# Altium integrated library TI Data Converters Analog to Digital Converter.IntLib: 2197 symbols (part 5 of 168)
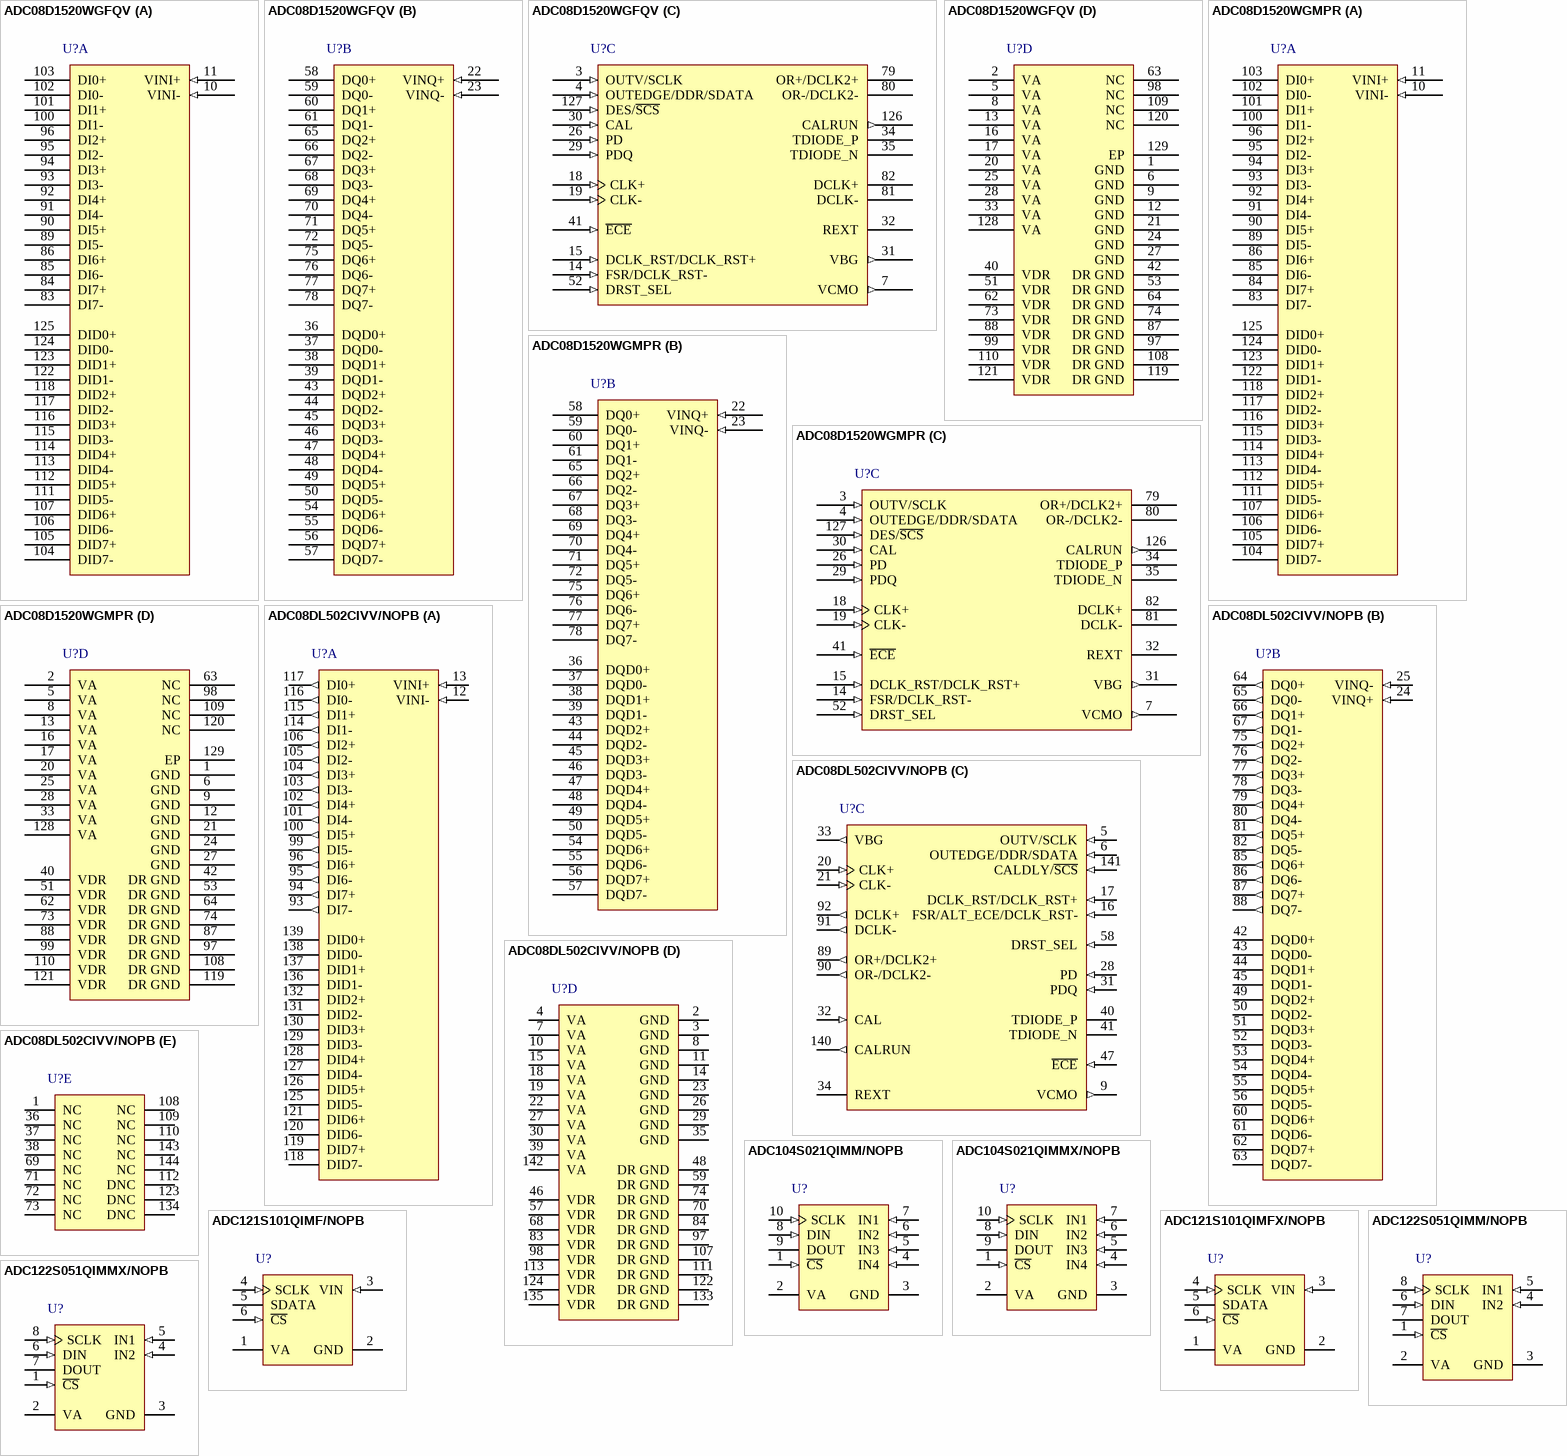
[diagram p130: symbols ADC08D1520WGFQV to ADC122S051QIMMX/NOPB]

## ADC08D1520WGMPR
designator U?
Low Power, 8-Bit, Dual 1.5 GSPS or Single 3.0 GSPS ADC, -55 to 125 degC, 128-pin CFP (NBC128), Green (RoHS & no Sb/Br); Manufacturer: Texas Instruments; PartNumber: ADC08D1520WGMPR; # Input Channels: 2; Analog Voltage AV/DD(Min)(V): 1.8; Architecture: Folding Interpolating; ENOB(Bits): 7.4; INL(Max)(+/-LSB): 0.9; Interface: Parallel LVDS, Serial SPI Interface; Resolution(Bits): 8; Sample Rate(max)(SPS): 3G; SFDR(dB): 55.5; SINAD(dB): 46.3; SNR(dB): 47; SubFamily: High Speed ADC (>10MSPS), High Speed ADC (>=1GSPS); DatasheetVersion: SNAS420O; PackageVersion: Rev. B, 08/2012; PackageReference: NBC128; PackageDescription: 128-Pin Ceramic, Metal Flat Pack, Body 19.558 x 19.558 mm, Pitch 0.508 mm; Supplier 1: Digi-Key; Supplier Part Number 1: 296-19305-2-ND; Supplier 2: Digi-Key; Supplier Part Number 2: 296-19305-1-ND; Supplier 3: Digi-Key; Supplier Part Number 3: 296-19305-6-ND; Supplier 4: Newark; Supplier Part Number 4: 05W5113; Supplier 5: Mouser; Supplier Part Number 5: 595-ADS7886SBDBVT; Analog Voltage AV/DD(Max)(V): 2; Digital Supply(Max)(V): 2; Digital Supply(Min)(V): 1.8; Eco-Plan: Green (RoHS & no Sb/Br); Mounting Technology: Surface Mount; ComponentLink1Description: Manufacturer URL; ComponentLink1URL: http://www.ti.com/; ComponentLink2Description: Datasheet; ComponentLink2URL: http://www.ti.com/lit/ds/symlink/adc08d1520qml-sp.pdf; ComponentLink3Description: Package Specification; ComponentLink3URL: http://www.ti.com/litv/pdf/mcqf023
footprint TI-NBC128_N (CQFP, 128-Leads, Body 19.558x19.558mm, Pitch 0.508mm, Thermal Pad 15.39 x 15.39 mm, IPC Medium Density)
footprint TI-NBC128_L (CQFP, 128-Leads, Body 19.558x19.558mm, Pitch 0.508mm, Thermal Pad 15.39 x 15.39 mm, IPC High Density)
footprint TI-NBC128_M (CQFP, 128-Leads, Body 19.558x19.558mm, Pitch 0.508mm, Thermal Pad 15.39 x 15.39 mm, IPC Low Density)
part A pins: 10 VINI- (in) "Analog signal inputs to the ADC. The differential full-scale input range is programmable using the FSR pin 14 in Non- Extended Control Mode and the Input Full-Scale Voltage Adjust register in the Extended Control Mode. Refer (See Datasheet)", 11 VINI+ (in) "Analog signal inputs to the ADC. The differential full-scale input range is programmable using the FSR pin 14 in Non- Extended Control Mode and the Input Full-Scale Voltage Adjust register in the Extended Control Mode. Refer (See Datasheet)", 83 DI7- (hiz) "I- and Q- channel LVDS Data Outputs that are not delayed in the output demultiplexer. Compared with the DId and DQd outputs, these outputs represent the later time samples. These outputs should always be terminated with a (See Datasheet)", 84 DI7+ (hiz) "I- and Q- channel LVDS Data Outputs that are not delayed in the output demultiplexer. Compared with the DId and DQd outputs, these outputs represent the later time samples. These outputs should always be terminated with a (See Datasheet)", 85 DI6- (hiz) "I- and Q- channel LVDS Data Outputs that are not delayed in the output demultiplexer. Compared with the DId and DQd outputs, these outputs represent the later time samples. These outputs should always be terminated with a (See Datasheet)", 86 DI6+ (hiz) "I- and Q- channel LVDS Data Outputs that are not delayed in the output demultiplexer. Compared with the DId and DQd outputs, these outputs represent the later time samples. These outputs should always be terminated with a (See Datasheet)", 89 DI5- (hiz) "I- and Q- channel LVDS Data Outputs that are not delayed in the output demultiplexer. Compared with the DId and DQd outputs, these outputs represent the later time samples. These outputs should always be terminated with a (See Datasheet)", 90 DI5+ (hiz) "I- and Q- channel LVDS Data Outputs that are not delayed in the output demultiplexer. Compared with the DId and DQd outputs, these outputs represent the later time samples. These outputs should always be terminated with a (See Datasheet)", 91 DI4- (hiz) "I- and Q- channel LVDS Data Outputs that are not delayed in the output demultiplexer. Compared with the DId and DQd outputs, these outputs represent the later time samples. These outputs should always be terminated with a (See Datasheet)", 92 DI4+ (hiz) "I- and Q- channel LVDS Data Outputs that are not delayed in the output demultiplexer. Compared with the DId and DQd outputs, these outputs represent the later time samples. These outputs should always be terminated with a (See Datasheet)", 93 DI3- (hiz) "I- and Q- channel LVDS Data Outputs that are not delayed in the output demultiplexer. Compared with the DId and DQd outputs, these outputs represent the later time samples. These outputs should always be terminated with a (See Datasheet)", 94 DI3+ (hiz) "I- and Q- channel LVDS Data Outputs that are not delayed in the output demultiplexer. Compared with the DId and DQd outputs, these outputs represent the later time samples. These outputs should always be terminated with a (See Datasheet)", 95 DI2- (hiz) "I- and Q- channel LVDS Data Outputs that are not delayed in the output demultiplexer. Compared with the DId and DQd outputs, these outputs represent the later time samples. These outputs should always be terminated with a (See Datasheet)", 96 DI2+ (hiz) "I- and Q- channel LVDS Data Outputs that are not delayed in the output demultiplexer. Compared with the DId and DQd outputs, these outputs represent the later time samples. These outputs should always be terminated with a (See Datasheet)", 100 DI1- (hiz) "I- and Q- channel LVDS Data Outputs that are not delayed in the output demultiplexer. Compared with the DId and DQd outputs, these outputs represent the later time samples. These outputs should always be terminated with a (See Datasheet)", 101 DI1+ (hiz) "I- and Q- channel LVDS Data Outputs that are not delayed in the output demultiplexer. Compared with the DId and DQd outputs, these outputs represent the later time samples. These outputs should always be terminated with a (See Datasheet)", 102 DI0- (hiz) "I- and Q- channel LVDS Data Outputs that are delayed by one CLK cycle in the output demultiplexer. Compared with the DI and DQ outputs, these outputs represent the earlier time sample. These outputs should always be (See Datasheet)", 103 DI0+ (hiz) "I- and Q- channel LVDS Data Outputs that are not delayed in the output demultiplexer. Compared with the DId and DQd outputs, these outputs represent the later time samples. These outputs should always be terminated with a (See Datasheet)", 104 DID7- (hiz) "I- and Q- channel LVDS Data Outputs that are delayed by one CLK cycle in the output demultiplexer. Compared with the DI and DQ outputs, these outputs represent the earlier time sample. These outputs should always be (See Datasheet)", 105 DID7+ (hiz) "I- and Q- channel LVDS Data Outputs that are delayed by one CLK cycle in the output demultiplexer. Compared with the DI and DQ outputs, these outputs represent the earlier time sample. These outputs should always be (See Datasheet)", 106 DID6- (hiz) "I- and Q- channel LVDS Data Outputs that are delayed by one CLK cycle in the output demultiplexer. Compared with the DI and DQ outputs, these outputs represent the earlier time sample. These outputs should always be (See Datasheet)", 107 DID6+ (hiz) "I- and Q- channel LVDS Data Outputs that are delayed by one CLK cycle in the output demultiplexer. Compared with the DI and DQ outputs, these outputs represent the earlier time sample. These outputs should always be (See Datasheet)", 111 DID5- (hiz) "I- and Q- channel LVDS Data Outputs that are delayed by one CLK cycle in the output demultiplexer. Compared with the DI and DQ outputs, these outputs represent the earlier time sample. These outputs should always be (See Datasheet)", 112 DID5+ (hiz) "I- and Q- channel LVDS Data Outputs that are delayed by one CLK cycle in the output demultiplexer. Compared with the DI and DQ outputs, these outputs represent the earlier time sample. These outputs should always be (See Datasheet)", 113 DID4- (hiz) "I- and Q- channel LVDS Data Outputs that are delayed by one CLK cycle in the output demultiplexer. Compared with the DI and DQ outputs, these outputs represent the earlier time sample. These outputs should always be (See Datasheet)", 114 DID4+ (hiz) "I- and Q- channel LVDS Data Outputs that are delayed by one CLK cycle in the output demultiplexer. Compared with the DI and DQ outputs, these outputs represent the earlier time sample. These outputs should always be (See Datasheet)", 115 DID3- (hiz) "I- and Q- channel LVDS Data Outputs that are delayed by one CLK cycle in the output demultiplexer. Compared with the DI and DQ outputs, these outputs represent the earlier time sample. These outputs should always be (See Datasheet)", 116 DID3+ (hiz) "I- and Q- channel LVDS Data Outputs that are delayed by one CLK cycle in the output demultiplexer. Compared with the DI and DQ outputs, these outputs represent the earlier time sample. These outputs should always be (See Datasheet)", 117 DID2- (hiz) "I- and Q- channel LVDS Data Outputs that are delayed by one CLK cycle in the output demultiplexer. Compared with the DI and DQ outputs, these outputs represent the earlier time sample. These outputs should always be (See Datasheet)", 118 DID2+ (hiz) "I- and Q- channel LVDS Data Outputs that are delayed by one CLK cycle in the output demultiplexer. Compared with the DI and DQ outputs, these outputs represent the earlier time sample. These outputs should always be (See Datasheet)", 122 DID1- (hiz) "I- and Q- channel LVDS Data Outputs that are delayed by one CLK cycle in the output demultiplexer. Compared with the DI and DQ outputs, these outputs represent the earlier time sample. These outputs should always be (See Datasheet)", 123 DID1+ (hiz) "I- and Q- channel LVDS Data Outputs that are delayed by one CLK cycle in the output demultiplexer. Compared with the DI and DQ outputs, these outputs represent the earlier time sample. These outputs should always be (See Datasheet)", 124 DID0- (hiz) "I- and Q- channel LVDS Data Outputs that are delayed by one CLK cycle in the output demultiplexer. Compared with the DI and DQ outputs, these outputs represent the earlier time sample. These outputs should always be (See Datasheet)", 125 DID0+ (hiz) "I- and Q- channel LVDS Data Outputs that are delayed by one CLK cycle in the output demultiplexer. Compared with the DI and DQ outputs, these outputs represent the earlier time sample. These outputs should always be (See Datasheet)"
part B pins: 22 VINQ+ (in) "Analog signal inputs to the ADC. The differential full-scale input range is programmable using the FSR pin 14 in Non- Extended Control Mode and the Input Full-Scale Voltage Adjust register in the Extended Control Mode. Refer (See Datasheet)", 23 VINQ- (in) "Analog signal inputs to the ADC. The differential full-scale input range is programmable using the FSR pin 14 in Non- Extended Control Mode and the Input Full-Scale Voltage Adjust register in the Extended Control Mode. Refer (See Datasheet)", 36 DQD0+ (hiz) "I- and Q- channel LVDS Data Outputs that are delayed by one CLK cycle in the output demultiplexer. Compared with the DI and DQ outputs, these outputs represent the earlier time sample. These outputs should always be (See Datasheet)", 37 DQD0- (hiz) "I- and Q- channel LVDS Data Outputs that are delayed by one CLK cycle in the output demultiplexer. Compared with the DI and DQ outputs, these outputs represent the earlier time sample. These outputs should always be (See Datasheet)", 38 DQD1+ (hiz) "I- and Q- channel LVDS Data Outputs that are delayed by one CLK cycle in the output demultiplexer. Compared with the DI and DQ outputs, these outputs represent the earlier time sample. These outputs should always be (See Datasheet)", 39 DQD1- (hiz) "I- and Q- channel LVDS Data Outputs that are delayed by one CLK cycle in the output demultiplexer. Compared with the DI and DQ outputs, these outputs represent the earlier time sample. These outputs should always be (See Datasheet)", 43 DQD2+ (hiz) "I- and Q- channel LVDS Data Outputs that are delayed by one CLK cycle in the output demultiplexer. Compared with the DI and DQ outputs, these outputs represent the earlier time sample. These outputs should always be (See Datasheet)", 44 DQD2- (hiz) "I- and Q- channel LVDS Data Outputs that are delayed by one CLK cycle in the output demultiplexer. Compared with the DI and DQ outputs, these outputs represent the earlier time sample. These outputs should always be (See Datasheet)", 45 DQD3+ (hiz) "I- and Q- channel LVDS Data Outputs that are delayed by one CLK cycle in the output demultiplexer. Compared with the DI and DQ outputs, these outputs represent the earlier time sample. These outputs should always be (See Datasheet)", 46 DQD3- (hiz) "I- and Q- channel LVDS Data Outputs that are delayed by one CLK cycle in the output demultiplexer. Compared with the DI and DQ outputs, these outputs represent the earlier time sample. These outputs should always be (See Datasheet)", 47 DQD4+ (hiz) "I- and Q- channel LVDS Data Outputs that are delayed by one CLK cycle in the output demultiplexer. Compared with the DI and DQ outputs, these outputs represent the earlier time sample. These outputs should always be (See Datasheet)", 48 DQD4- (hiz) "I- and Q- channel LVDS Data Outputs that are delayed by one CLK cycle in the output demultiplexer. Compared with the DI and DQ outputs, these outputs represent the earlier time sample. These outputs should always be (See Datasheet)", 49 DQD5+ (hiz) "I- and Q- channel LVDS Data Outputs that are delayed by one CLK cycle in the output demultiplexer. Compared with the DI and DQ outputs, these outputs represent the earlier time sample. These outputs should always be (See Datasheet)", 50 DQD5- (hiz) "I- and Q- channel LVDS Data Outputs that are delayed by one CLK cycle in the output demultiplexer. Compared with the DI and DQ outputs, these outputs represent the earlier time sample. These outputs should always be (See Datasheet)", 54 DQD6+ (hiz) "I- and Q- channel LVDS Data Outputs that are delayed by one CLK cycle in the output demultiplexer. Compared with the DI and DQ outputs, these outputs represent the earlier time sample. These outputs should always be (See Datasheet)", 55 DQD6- (hiz) "I- and Q- channel LVDS Data Outputs that are delayed by one CLK cycle in the output demultiplexer. Compared with the DI and DQ outputs, these outputs represent the earlier time sample. These outputs should always be (See Datasheet)", 56 DQD7+ (hiz) "I- and Q- channel LVDS Data Outputs that are delayed by one CLK cycle in the output demultiplexer. Compared with the DI and DQ outputs, these outputs represent the earlier time sample. These outputs should always be (See Datasheet)", 57 DQD7- (hiz) "I- and Q- channel LVDS Data Outputs that are delayed by one CLK cycle in the output demultiplexer. Compared with the DI and DQ outputs, these outputs represent the earlier time sample. These outputs should always be (See Datasheet)", 58 DQ0+ (hiz) "I- and Q- channel LVDS Data Outputs that are not delayed in the output demultiplexer. Compared with the DId and DQd outputs, these outputs represent the later time samples. These outputs should always be terminated with a (See Datasheet)", 59 DQ0- (hiz) "I- and Q- channel LVDS Data Outputs that are not delayed in the output demultiplexer. Compared with the DId and DQd outputs, these outputs represent the later time samples. These outputs should always be terminated with a (See Datasheet)", 60 DQ1+ (hiz) "I- and Q- channel LVDS Data Outputs that are not delayed in the output demultiplexer. Compared with the DId and DQd outputs, these outputs represent the later time samples. These outputs should always be terminated with a (See Datasheet)", 61 DQ1- (hiz) "I- and Q- channel LVDS Data Outputs that are not delayed in the output demultiplexer. Compared with the DId and DQd outputs, these outputs represent the later time samples. These outputs should always be terminated with a (See Datasheet)", 65 DQ2+ (hiz) "I- and Q- channel LVDS Data Outputs that are not delayed in the output demultiplexer. Compared with the DId and DQd outputs, these outputs represent the later time samples. These outputs should always be terminated with a (See Datasheet)", 66 DQ2- (hiz) "I- and Q- channel LVDS Data Outputs that are not delayed in the output demultiplexer. Compared with the DId and DQd outputs, these outputs represent the later time samples. These outputs should always be terminated with a (See Datasheet)", 67 DQ3+ (hiz) "I- and Q- channel LVDS Data Outputs that are not delayed in the output demultiplexer. Compared with the DId and DQd outputs, these outputs represent the later time samples. These outputs should always be terminated with a (See Datasheet)", 68 DQ3- (hiz) "I- and Q- channel LVDS Data Outputs that are not delayed in the output demultiplexer. Compared with the DId and DQd outputs, these outputs represent the later time samples. These outputs should always be terminated with a (See Datasheet)", 69 DQ4+ (hiz) "I- and Q- channel LVDS Data Outputs that are not delayed in the output demultiplexer. Compared with the DId and DQd outputs, these outputs represent the later time samples. These outputs should always be terminated with a (See Datasheet)", 70 DQ4- (hiz) "I- and Q- channel LVDS Data Outputs that are not delayed in the output demultiplexer. Compared with the DId and DQd outputs, these outputs represent the later time samples. These outputs should always be terminated with a (See Datasheet)", 71 DQ5+ (hiz) "I- and Q- channel LVDS Data Outputs that are not delayed in the output demultiplexer. Compared with the DId and DQd outputs, these outputs represent the later time samples. These outputs should always be terminated with a (See Datasheet)", 72 DQ5- (hiz) "I- and Q- channel LVDS Data Outputs that are not delayed in the output demultiplexer. Compared with the DId and DQd outputs, these outputs represent the later time samples. These outputs should always be terminated with a (See Datasheet)", 75 DQ6+ (hiz) "I- and Q- channel LVDS Data Outputs that are not delayed in the output demultiplexer. Compared with the DId and DQd outputs, these outputs represent the later time samples. These outputs should always be terminated with a (See Datasheet)", 76 DQ6- (hiz) "I- and Q- channel LVDS Data Outputs that are not delayed in the output demultiplexer. Compared with the DId and DQd outputs, these outputs represent the later time samples. These outputs should always be terminated with a (See Datasheet)", 77 DQ7+ (hiz) "I- and Q- channel LVDS Data Outputs that are not delayed in the output demultiplexer. Compared with the DId and DQd outputs, these outputs represent the later time samples. These outputs should always be terminated with a (See Datasheet)", 78 DQ7- (hiz) "I- and Q- channel LVDS Data Outputs that are not delayed in the output demultiplexer. Compared with the DId and DQd outputs, these outputs represent the later time samples. These outputs should always be terminated with a (See Datasheet)"
part C pins: 3 OUTV/SCLK (in) "Output Voltage Amplitude and Serial Interface Clock. Tie this pin high for normal differential DCLK and data amplitude. Ground this pin for a reduced differential output amplitude and reduced power consumption. See The LVDS (See Datasheet)", 4 OUTEDGE/DDR/SDATA (in) "DCLK Edge Select, Double Data Rate Enable and Serial Data Input. This input sets the output edge of DCLK+ at which the output data transitions. See OutEdge and Demultiplex Control Setting When this pin is connected to 1/2 (See Datasheet)", 7 VCMO (out) "Common Mode Voltage. This pin is the common mode output in d.c. coupling mode and also serves as the a.c. coupling mode select pin. When d.c. coupling is used at the analog inputs, the voltage output at this pin is required (See Datasheet)", 14 FSR/DCLK_RST- (in) "Full Scale Range Select, Alternate Extended Control Enable and DCLK_RST-. This pin has two functions. It can conditionally control the ADC full-scale voltage, or become the negative polarity signal of a differential pair in (See Datasheet)", 15 DCLK_RST/DCLK_RST+ (in) "DCLK Reset. When single-ended DCLK_RST is selected by setting pin 52 logic high or to VA/2, a positive pulse on this pin is used to reset and synchronize the DCLK outputs of multiple converters. See MULTIPLE ADC (See Datasheet)", 18 CLK+ (in) "LVDS Clock input pins for the ADC. The differential clock signal must be a.c. coupled to these pins. The input signal is sampled on the falling edge of CLK+. See Acquiring the Input for a description of acquiring the input (See Datasheet)", 19 CLK- (in) "LVDS Clock input pins for the ADC. The differential clock signal must be a.c. coupled to these pins. The input signal is sampled on the falling edge of CLK+. See Acquiring the Input for a description of acquiring the input (See Datasheet)", 26 PD (in) "Power Down Pins. A logic high on the PD pin puts the entire device into the Power Down Mode.", 29 PDQ (in) "A logic high on the PDQ pin puts only the Q-Channel ADC into the Power Down mode.", 30 CAL (in) "Calibration Cycle Initiate. A minimum tCAL_L input clock cycles logic low followed by a minimum of tCAL_H input clock cycles high on this pin initiates the calibration sequence. See Calibration for an overview of calibration (See Datasheet)", 31 VBG (out) "Bandgap output voltage. This pin is capable of sourcing or sinking 100 uA and can drive a load up to 80 pF.", 32 REXT "External bias resistor connection. Nominal value is 3.3 kohm (+/-0.1%) to ground. See Calibration.", 34 TDIODE_P "Temperature Diode Positive (Anode) and Negative (Cathode). These pins may be used for die temperature measurements", 35 TDIODE_N "Temperature Diode Positive (Anode) and Negative (Cathode). These pins may be used for die temperature measurements", 41 ~{ECE} (in) "Extended Control Enable. This pin always enables or disables Extended Control Mode. When this pin is set logic high, the Extended Control Mode is inactive and all control of the device must be through control pins only . (See Datasheet)", 52 DRST_SEL (in) "DCLK_RST select. This pin selects whether the DCLK is reset using a single-ended or differential signal. When this pin is connected at logic high, the DCLK_RST operation is singleended and pin 14 functions as FSR/ALT_ECE. (See Datasheet)", 79 OR+/DCLK2+ (hiz) "Out Of Range output. A differential high at these pins indicates that the differential input is out of range +/-VIN/2 as programmed by the FSR pin in Non-Extended Control Mode or the Input Full-Scale Voltage Adjust register (See Datasheet)", 80 OR-/DCLK2- (hiz) "Out Of Range output. A differential high at these pins indicates that the differential input is out of range +/-VIN/2 as programmed by the FSR pin in Non-Extended Control Mode or the Input Full-Scale Voltage Adjust register (See Datasheet)", 81 DCLK- (hiz) "Data Clock. Differential Clock outputs used to latch the output data. Delayed and non-delayed data outputs are supplied synchronous to this signal. In 1:2 Demultiplexed Mode, this signal is at 1/2 the input clock rate in SDR (See Datasheet)", 82 DCLK+ (hiz) "Data Clock. Differential Clock outputs used to latch the output data. Delayed and non-delayed data outputs are supplied synchronous to this signal. In 1:2 Demultiplexed Mode, this signal is at 1/2 the input clock rate in SDR (See Datasheet)", 126 CALRUN (out) "Calibration Running indication. This pin is at a logic high when calibration is running.", 127 DES/~{SCS} (in) "Dual Edge Sampling and Serial Interface Chip Select. With pin 41 logic low, the device is in Extended Control Mode and this pin is the enable pin for the Serial Interface . When in Non-Extended Control Mode and this pin is (See Datasheet)"
part D pins: 1 GND (power) "Ground return for VA.", 2 VA (power) "Analog power supply pins. Bypass these pins to ground.", 5 VA (power) "Analog power supply pins. Bypass these pins to ground.", 6 GND (power) "Ground return for VA.", 8 VA (power) "Analog power supply pins. Bypass these pins to ground.", 9 GND (power) "Ground return for VA.", 12 GND (power) "Ground return for VA.", 13 VA (power) "Analog power supply pins. Bypass these pins to ground.", 16 VA (power) "Analog power supply pins. Bypass these pins to ground.", 17 VA (power) "Analog power supply pins. Bypass these pins to ground.", 20 VA (power) "Analog power supply pins. Bypass these pins to ground.", 21 GND (power) "Ground return for VA.", 24 GND (power) "Ground return for VA.", 25 VA (power) "Analog power supply pins. Bypass these pins to ground.", 27 GND (power) "Ground return for VA.", 28 VA (power) "Analog power supply pins. Bypass these pins to ground.", 33 VA (power) "Analog power supply pins. Bypass these pins to ground.", 40 VDR (power) "Output Driver power supply pins. Bypass these pins to DR GND.", 42 DR GND (power) "Ground return for VDR.", 51 VDR (power) "Output Driver power supply pins. Bypass these pins to DR GND.", 53 DR GND (power) "Ground return for VDR.", 62 VDR (power) "Output Driver power supply pins. Bypass these pins to DR GND.", 63 NC "No Connection. Make no connection to these pins.", 64 DR GND (power) "Ground return for VDR.", 73 VDR (power) "Output Driver power supply pins. Bypass these pins to DR GND.", 74 DR GND (power) "Ground return for VDR.", 87 DR GND (power) "Ground return for VDR.", 88 VDR (power) "Output Driver power supply pins. Bypass these pins to DR GND.", 97 DR GND (power) "Ground return for VDR.", 98 NC "No Connection. Make no connection to these pins.", 99 VDR (power) "Output Driver power supply pins. Bypass these pins to DR GND.", 108 DR GND (power) "Ground return for VDR.", 109 NC "No Connection. Make no connection to these pins.", 110 VDR (power) "Output Driver power supply pins. Bypass these pins to DR GND.", 119 DR GND (power) "Ground return for VDR.", 120 NC "No Connection. Make no connection to these pins.", 121 VDR (power) "Output Driver power supply pins. Bypass these pins to DR GND.", 128 VA (power) "Analog power supply pins. Bypass these pins to ground.", 129 EP (power) "The exposed pad on the bottom of the package must be soldered to a ground plane to ensure rated performance."